# EAGLE library part FMC_LPC_F (library flipbit_fmc)
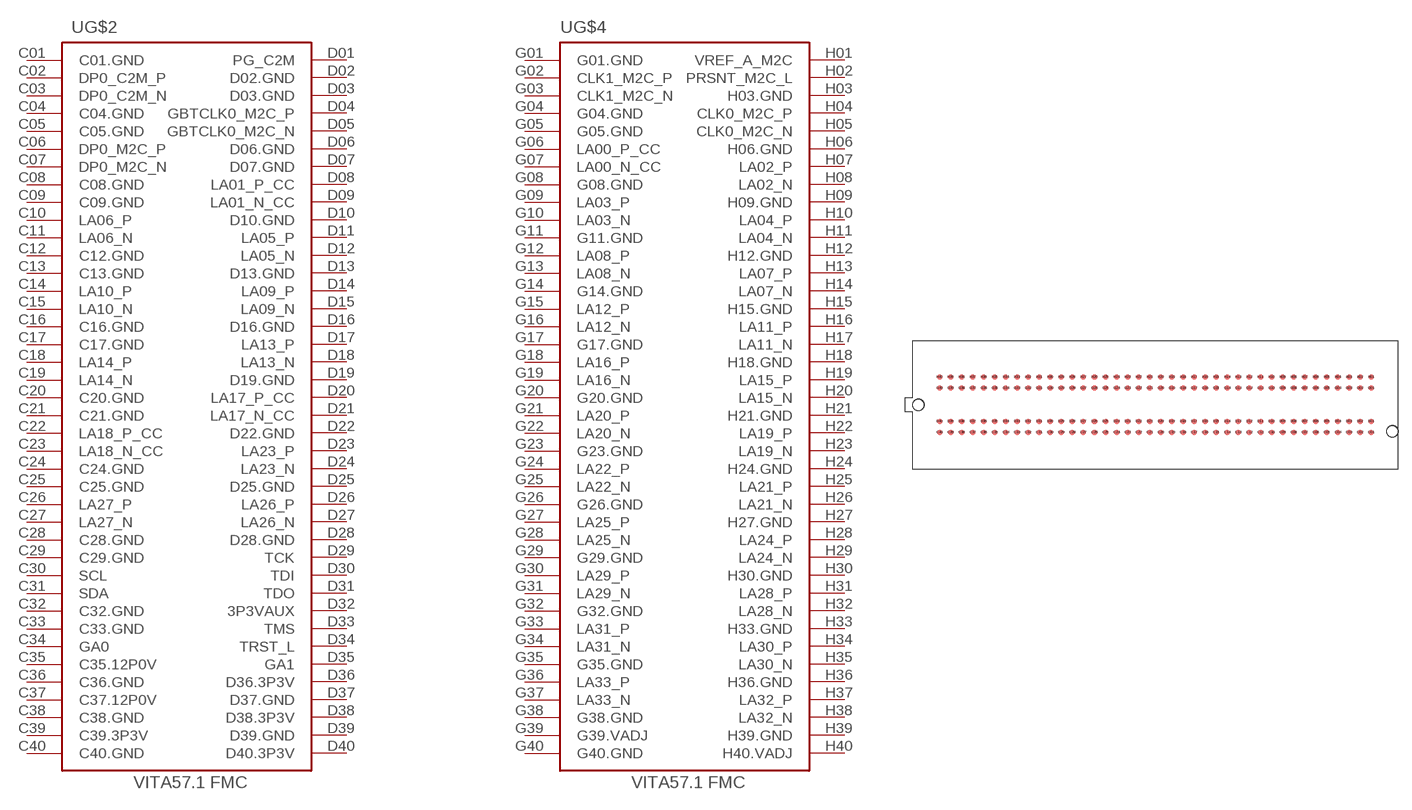
[diagram p6: symbol with the pads of ASP-127796-01; footprint ASP-127796-01]

Designator prefix -; gates G$2=FMC_CD G$4=FMC_GH

## FMC_LPC_F  [ASP-127796-01]
C01  G$2:C01.GND
C02  G$2:DP0_C2M_P
C03  G$2:DP0_C2M_N
C04  G$2:C04.GND
C05  G$2:C05.GND
C06  G$2:DP0_M2C_P
C07  G$2:DP0_M2C_N
C08  G$2:C08.GND
C09  G$2:C09.GND
C10  G$2:LA06_P
C11  G$2:LA06_N
C12  G$2:C12.GND
C13  G$2:C13.GND
C14  G$2:LA10_P
C15  G$2:LA10_N
C16  G$2:C16.GND
C17  G$2:C17.GND
C18  G$2:LA14_P
C19  G$2:LA14_N
C20  G$2:C20.GND
C21  G$2:C21.GND
C22  G$2:LA18_P_CC
C23  G$2:LA18_N_CC
C24  G$2:C24.GND
C25  G$2:C25.GND
C26  G$2:LA27_P
C27  G$2:LA27_N
C28  G$2:C28.GND
C29  G$2:C29.GND
C30  G$2:SCL
C31  G$2:SDA
C32  G$2:C32.GND
C33  G$2:C33.GND
C34  G$2:GA0
C35  G$2:C35.12P0V
C36  G$2:C36.GND
C37  G$2:C37.12P0V
C38  G$2:C38.GND
C39  G$2:C39.3P3V
C40  G$2:C40.GND
D01  G$2:PG_C2M
D02  G$2:D02.GND
D03  G$2:D03.GND
D04  G$2:GBTCLK0_M2C_P
D05  G$2:GBTCLK0_M2C_N
D06  G$2:D06.GND
D07  G$2:D07.GND
D08  G$2:LA01_P_CC
D09  G$2:LA01_N_CC
D10  G$2:D10.GND
D11  G$2:LA05_P
D12  G$2:LA05_N
D13  G$2:D13.GND
D14  G$2:LA09_P
D15  G$2:LA09_N
D16  G$2:D16.GND
D17  G$2:LA13_P
D18  G$2:LA13_N
D19  G$2:D19.GND
D20  G$2:LA17_P_CC
D21  G$2:LA17_N_CC
D22  G$2:D22.GND
D23  G$2:LA23_P
D24  G$2:LA23_N
D25  G$2:D25.GND
D26  G$2:LA26_P
D27  G$2:LA26_N
D28  G$2:D28.GND
D29  G$2:TCK
D30  G$2:TDI
D31  G$2:TDO
D32  G$2:3P3VAUX
D33  G$2:TMS
D34  G$2:TRST_L
D35  G$2:GA1
D36  G$2:D36.3P3V
D37  G$2:D37.GND
D38  G$2:D38.3P3V
D39  G$2:D39.GND
D40  G$2:D40.3P3V
G01  G$4:G01.GND
G02  G$4:CLK1_M2C_P
G03  G$4:CLK1_M2C_N
G04  G$4:G04.GND
G05  G$4:G05.GND
G06  G$4:LA00_P_CC
G07  G$4:LA00_N_CC
G08  G$4:G08.GND
G09  G$4:LA03_P
G10  G$4:LA03_N
G11  G$4:G11.GND
G12  G$4:LA08_P
G13  G$4:LA08_N
G14  G$4:G14.GND
G15  G$4:LA12_P
G16  G$4:LA12_N
G17  G$4:G17.GND
G18  G$4:LA16_P
G19  G$4:LA16_N
G20  G$4:G20.GND
G21  G$4:LA20_P
G22  G$4:LA20_N
G23  G$4:G23.GND
G24  G$4:LA22_P
G25  G$4:LA22_N
G26  G$4:G26.GND
G27  G$4:LA25_P
G28  G$4:LA25_N
G29  G$4:G29.GND
G30  G$4:LA29_P
G31  G$4:LA29_N
G32  G$4:G32.GND
G33  G$4:LA31_P
G34  G$4:LA31_N
G35  G$4:G35.GND
G36  G$4:LA33_P
G37  G$4:LA33_N
G38  G$4:G38.GND
G39  G$4:G39.VADJ
G40  G$4:G40.GND
H01  G$4:VREF_A_M2C
H02  G$4:PRSNT_M2C_L
H03  G$4:H03.GND
H04  G$4:CLK0_M2C_P
H05  G$4:CLK0_M2C_N
H06  G$4:H06.GND
H07  G$4:LA02_P
H08  G$4:LA02_N
H09  G$4:H09.GND
H10  G$4:LA04_P
H11  G$4:LA04_N
H12  G$4:H12.GND
H13  G$4:LA07_P
H14  G$4:LA07_N
H15  G$4:H15.GND
H16  G$4:LA11_P
H17  G$4:LA11_N
H18  G$4:H18.GND
H19  G$4:LA15_P
H20  G$4:LA15_N
H21  G$4:H21.GND
H22  G$4:LA19_P
H23  G$4:LA19_N
H24  G$4:H24.GND
H25  G$4:LA21_P
H26  G$4:LA21_N
H27  G$4:H27.GND
H28  G$4:LA24_P
H29  G$4:LA24_N
H30  G$4:H30.GND
H31  G$4:LA28_P
H32  G$4:LA28_N
H33  G$4:H33.GND
H34  G$4:LA30_P
H35  G$4:LA30_N
H36  G$4:H36.GND
H37  G$4:LA32_P
H38  G$4:LA32_N
H39  G$4:H39.GND
H40  G$4:H40.VADJ

## Footprint ASP-127796-01 (pad centres in mm)
smd 0.635 x 0.635: C01 24.765,-3.175; C02 23.495,-3.175; C03 22.225,-3.175; C04 20.955,-3.175; C05 19.685,-3.175; C06 18.415,-3.175; C07 17.145,-3.175; C08 15.875,-3.175; C09 14.605,-3.175; C10 13.335,-3.175; C11 12.065,-3.175; C12 10.795,-3.175; C13 9.525,-3.175; C14 8.255,-3.175; C15 6.985,-3.175; C16 5.715,-3.175; C17 4.445,-3.175; C18 3.175,-3.175; C19 1.905,-3.175; C20 0.635,-3.175; C21 -0.635,-3.175; C22 -1.905,-3.175; C23 -3.175,-3.175; C24 -4.445,-3.175; C25 -5.715,-3.175; C26 -6.985,-3.175; C27 -8.255,-3.175; C28 -9.525,-3.175; C29 -10.795,-3.175; C30 -12.065,-3.175; C31 -13.335,-3.175; C32 -14.605,-3.175; C33 -15.875,-3.175; C34 -17.145,-3.175; C35 -18.415,-3.175; C36 -19.685,-3.175; C37 -20.955,-3.175; C38 -22.225,-3.175; C39 -23.495,-3.175; C40 -24.765,-3.175; D01 24.765,-1.905; D02 23.495,-1.905; D03 22.225,-1.905; D04 20.955,-1.905; D05 19.685,-1.905; D06 18.415,-1.905; D07 17.145,-1.905; D08 15.875,-1.905; D09 14.605,-1.905; D10 13.335,-1.905; D11 12.065,-1.905; D12 10.795,-1.905; D13 9.525,-1.905; D14 8.255,-1.905; D15 6.985,-1.905; D16 5.715,-1.905; D17 4.445,-1.905; D18 3.175,-1.905; D19 1.905,-1.905; D20 0.635,-1.905; D21 -0.635,-1.905; D22 -1.905,-1.905; D23 -3.175,-1.905; D24 -4.445,-1.905; D25 -5.715,-1.905; D26 -6.985,-1.905; D27 -8.255,-1.905; D28 -9.525,-1.905; D29 -10.795,-1.905; D30 -12.065,-1.905; D31 -13.335,-1.905; D32 -14.605,-1.905; D33 -15.875,-1.905; D34 -17.145,-1.905; D35 -18.415,-1.905; D36 -19.685,-1.905; D37 -20.955,-1.905; D38 -22.225,-1.905; D39 -23.495,-1.905; D40 -24.765,-1.905; G01 24.765,1.905; G02 23.495,1.905; G03 22.225,1.905; G04 20.955,1.905; G05 19.685,1.905; G06 18.415,1.905; G07 17.145,1.905; G08 15.875,1.905; G09 14.605,1.905; G10 13.335,1.905; G11 12.065,1.905; G12 10.795,1.905; G13 9.525,1.905; G14 8.255,1.905; G15 6.985,1.905; G16 5.715,1.905; G17 4.445,1.905; G18 3.175,1.905; G19 1.905,1.905; G20 0.635,1.905; G21 -0.635,1.905; G22 -1.905,1.905; G23 -3.175,1.905; G24 -4.445,1.905; G25 -5.715,1.905; G26 -6.985,1.905; G27 -8.255,1.905; G28 -9.525,1.905; G29 -10.795,1.905; G30 -12.065,1.905; G31 -13.335,1.905; G32 -14.605,1.905; G33 -15.875,1.905; G34 -17.145,1.905; G35 -18.415,1.905; G36 -19.685,1.905; G37 -20.955,1.905; G38 -22.225,1.905; G39 -23.495,1.905; G40 -24.765,1.905; H01 24.765,3.175; H02 23.495,3.175; H03 22.225,3.175; H04 20.955,3.175; H05 19.685,3.175; H06 18.415,3.175; H07 17.145,3.175; H08 15.875,3.175; H09 14.605,3.175; H10 13.335,3.175; H11 12.065,3.175; H12 10.795,3.175; H13 9.525,3.175; H14 8.255,3.175; H15 6.985,3.175; H16 5.715,3.175; H17 4.445,3.175; H18 3.175,3.175; H19 1.905,3.175; H20 0.635,3.175; H21 -0.635,3.175; H22 -1.905,3.175; H23 -3.175,3.175; H24 -4.445,3.175; H25 -5.715,3.175; H26 -6.985,3.175; H27 -8.255,3.175; H28 -9.525,3.175; H29 -10.795,3.175; H30 -12.065,3.175; H31 -13.335,3.175; H32 -14.605,3.175; H33 -15.875,3.175; H34 -17.145,3.175; H35 -18.415,3.175; H36 -19.685,3.175; H37 -20.955,3.175; H38 -22.225,3.175; H39 -23.495,3.175; H40 -24.765,3.175
hole 1.27 at -27.191,0
hole 1.27 at 27.191,-3.048
hole 1.321 at -27.191,0
hole 1.321 at 27.191,-3.048